# Altium schematic symbol library SCH - DRIVER - GATE - MICROCHIP MIC4605-1YM.SchLib: 1 symbol
Pins are listed as number, name and electrical type; pins without a type are passive.

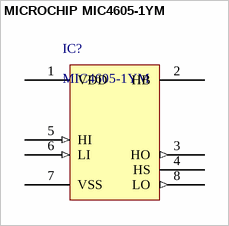
[diagram p0: symbol MICROCHIP MIC4605-1YM]

## MICROCHIP MIC4605-1YM
designator IC?, comment MIC4605-1YM
85V Half-Bridge MOSFET Driver with Adaptive Dead Time and Shoot-Through Protection; Manufacturer: Microchip; Manufacturer Part Number: MIC4605-1YM; RoHS: Yes; Stock 1: 747; Pricing 1: 1=0,78000, 25=0,65000, 100=0,59000 (USD); ComponentLink1URL: https://datasheet.ciiva.com/28655/1785059-28655110.pdf?src-supplier=Element14; ComponentLink1Description: https://datasheet.ciiva.com/28655/1785059-28655110.pdf?src-supplier=Element14; Supplier 1: Digi-Key; Supplier 2: Digi-Key; Supplier 3: Digi-Key; Supplier Part Number 1: MIC4605-1YM-ND; Supplier Part Number 2: 576-4461-1-ND; Supplier Part Number 3: 576-4471-1-ND; Part Number: MIC4605-1YM
footprint MICROCHIP SOIC-8 150mil wide (SOIC, 8-Leads, Body 4.90x3.90mm, Pitch 1.27mm, IPC Medium Density)
pins: 1 VDD (power) "Input Supply for Gate Drivers. Decouple this pin to VSS with a > 0.1 µF capacitor.", 2 HB (power) "High-Side Bootstrap Supply. An external bootstrap capacitor is required. Connect the bootstrap capacitor across this pin and HS. An on-board bootstrap diode is connected from V DD to HB.", 3 HO (out) "High-Side Drive Output. Connect to the gate of the external high-side power MOSFET.", 4 HS (power) "High-Side Drive Reference Connection. Connect to source of the external high-side power MOSFET. Connect the bottom of bootstrap capacitor to this pin.", 5 HI (in) "Single PWM Input. Drives both the high-side and low-side outputs out of phase.", 6 LI (in) "Single PWM Input. Drives both the high-side and low-side outputs out of phase.", 7 VSS (power) "Driver Reference Supply Input. Generally connected to the power ground of external circuitry.", 8 LO (out) "Low-Side Drive Output. Connect to the gate of the external low-side power MOSFET."